# Altium schematic symbol library QUTMS_PowerSupplyLibrary.SchLib: 2 symbols
Pins are listed as number, name and electrical type; pins without a type are passive.

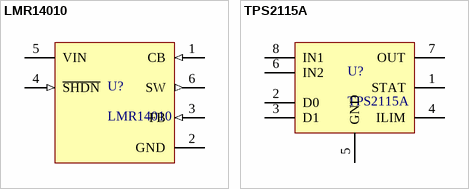
[diagram p0: symbols LMR14010 to TPS2115A]

## LMR14010
designator U?
footprint LMR14010
pins: 1 CB (in), 2 GND (power), 3 FB (in), 4 ~{SHDN} (in), 5 VIN (power), 6 SW (out)

## TPS2115A
designator U?
OR Controller Source Selector Switch N-Channel 2:1 8-TSSOP; ComponentLink1Description: Digikey; ComponentLink1URL: https://www.digikey.com.au/product-detail/en/texas-instruments/TPS2115AIPWRQ1/296-24155-1-ND/2000840
footprint TPS2115A
pins: 1 STAT "STAT is an open-drain output that is Hi-Z if the IN2 switch is ON. STAT pulls low if the IN1 switch is ON or if OUT is Hi-Z (i.e., E\N\ is equal to logic 0).", 2 D0 "TTL- and CMOS-compatible input pin. Each pin has a 1-µA pull-up. Table 1 illustrates the functionality of D0 and D1.", 3 D1 "TTL- and CMOS-compatible input pin. Each pin has a 1-µA pull-up. Table 1 illustrates the functionality of D0 and D1.", 4 ILIM "A resistor RILIM from ILIM to GND sets the current limit IL to 500/RILIM for the TPS2115A", 5 GND "Ground", 6 IN2 "Secondary power switch input. The IN2 switch can be enabled only if the IN2 supply is above the UVLO threshold and at least one supply exceeds the internal VDD UVLO.", 7 OUT "Power switch output", 8 IN1 "Primary power switch input. The IN1 switch can be enabled only if the IN1 supply is above the UVLO threshold and at least one supply exceeds the internal VDD UVLO."